# EAGLE library part MOLEX-2203-06 (library A4988)
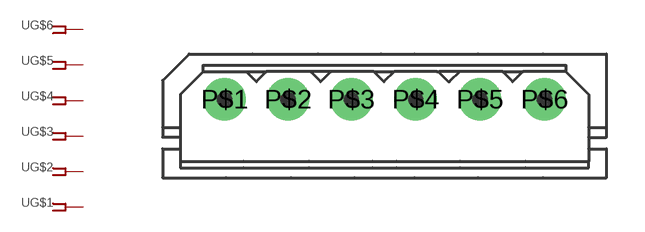
[diagram p23: symbol with the pads of MOLEX-SPOX-2203-06; footprint MOLEX-SPOX-2203-06]

Designator prefix -; gates G$1=FPIN G$2=FPIN G$3=FPIN G$4=FPIN G$5=FPIN G$6=FPIN

## MOLEX-2203-06  [MOLEX-SPOX-2203-06]
P$1  G$1:1  pas
P$2  G$2:1  pas
P$3  G$3:1  pas
P$4  G$4:1  pas
P$5  G$5:1  pas
P$6  G$6:1  pas

## Footprint MOLEX-SPOX-2203-06 (pad centres in mm)
drill 0.8 pad 1.676: P$1 0,0; P$2 2.5,0; P$3 5,0; P$4 7.54,0; P$5 10.08,0; P$6 12.62,0